# EAGLE library part 1X9 (library LARS_409_CONNECTORS)
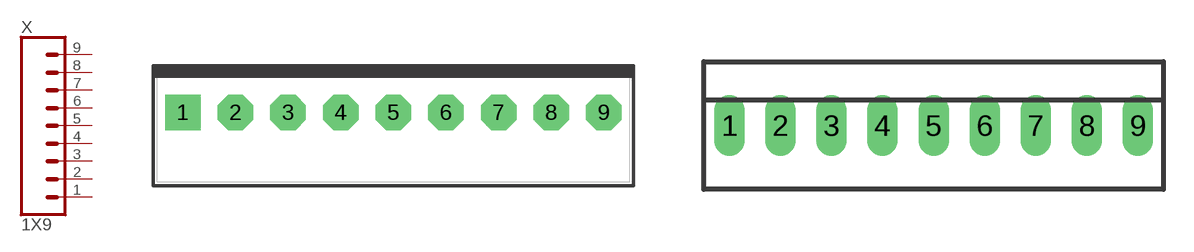
[diagram p3: symbol with the pads of JST-B9P-VH; footprints JST-B9P-VH, MOLEX-09]

Designator prefix X

## 1X9B9P-VH  [JST-B9P-VH]
1  1  pas
2  2  pas
3  3  pas
4  4  pas
5  5  pas
6  6  pas
7  7  pas
8  8  pas
9  9  pas

## 1X9MOLEX-09  [MOLEX-09]
Pads as for JST-B9P-VH

## 1X9JST-XH-09  [JST-XH-09]
Pads as for JST-B9P-VH

## 1X9WF-9  [WF-9]
P$1  1  pas
P$2  2  pas
P$3  3  pas
P$4  4  pas
P$5  5  pas
P$6  6  pas
P$7  7  pas
P$8  8  pas
P$9  9  pas

## 1X9DUPON  [1X09DUPON]
Pads as for JST-B9P-VH

## 1X9FFC  [FFC-1MM_9]
Pads as for JST-B9P-VH

## Footprint JST-B9P-VH (pad centres in mm)
HEADER
drill 1.778 square: 1 -15.84,0
drill 1.778 octagon: 2 -11.88,0; 3 -7.92,0; 4 -3.96,0; 5 0,0; 6 3.96,0; 7 7.92,0; 8 11.88,0; 9 15.84,0

## Footprint MOLEX-09 (pad centres in mm)
KK® 254 Solid Header, Vertical, with Friction Lock, 9 Circuits, Tin (Sn) Plating Datasheet <http://www.molex.com/pdm_docs/sd/022232091_sd.pdf>
drill 1 long: 1 -10.16,0; 2 -7.62,0; 3 -5.08,0; 4 -2.54,0; 5 0,0; 6 2.54,0; 7 5.08,0; 8 7.62,0; 9 10.16,0

## Footprint JST-XH-09 (pad centres in mm)
JST XH Connector Long Pads (Package) Wire to board connector. Pitch: 2,54 mm, (0.100") Number of pins: 9 Created by Rembrandt Electronics www.rembrandtelectronics.com
drill 1.016 long: 1 -10.16,0; 2 -7.62,0; 3 -5.08,0; 4 -2.54,0; 5 0,0; 6 2.54,0; 7 5.08,0; 8 7.62,0; 9 10.16,0

## Footprint WF-9 (pad centres in mm)
drill 0.8 pad 1.8: P$1 -10.16,0; P$2 -7.62,0; P$3 -5.08,0; P$4 -2.54,0; P$5 0,0; P$6 2.54,0; P$7 5.08,0; P$8 7.62,0; P$9 10.16,0

## Footprint 1X09DUPON (pad centres in mm)
Single-row, 9-pin Pin Header (Male) Straight, 2.54 mm (0.10 in) col pitch, 5.84 mm mating length, 22.86 X 2.54 X 8.38 mm body Single-row (1X9), 9-pin Pin Header (Male) Straight package with 2.54 mm (0.10 in) col pitch, 0.64 mm lead width, 3.00 mm tail length and 5.84 mm mating length with overall size 22.86 X 2.54 X 8.38 mm, pin pattern - clockwise from top left
drill 1.016 pad 1.88: 1 0,0; 2 2.54,0; 3 5.08,0; 4 7.62,0; 5 10.16,0; 6 12.7,0; 7 15.24,0; 8 17.78,0; 9 20.32,0

## Footprint FFC-1MM_9 (pad centres in mm)
smd 0.7 x 3: 1 -4,0; 2 -3,0; 3 -2,0; 4 -1,0; 5 0,0; 6 1,0; 7 2,0; 8 3,0; 9 4,0